# Altium footprint library MainBoard.PcbLib: 34 footprints (part 1 of 3)
Each footprint in its own frame and in the unit in brackets; x right, y up, seen from the top. Pads: shape width x height; smd on the part's side, far side on the other; paste and mask are expansions set on the pad; w line width, h text height; cw(c..) or ccw(c..) is an arc to the next point about the centre after c.
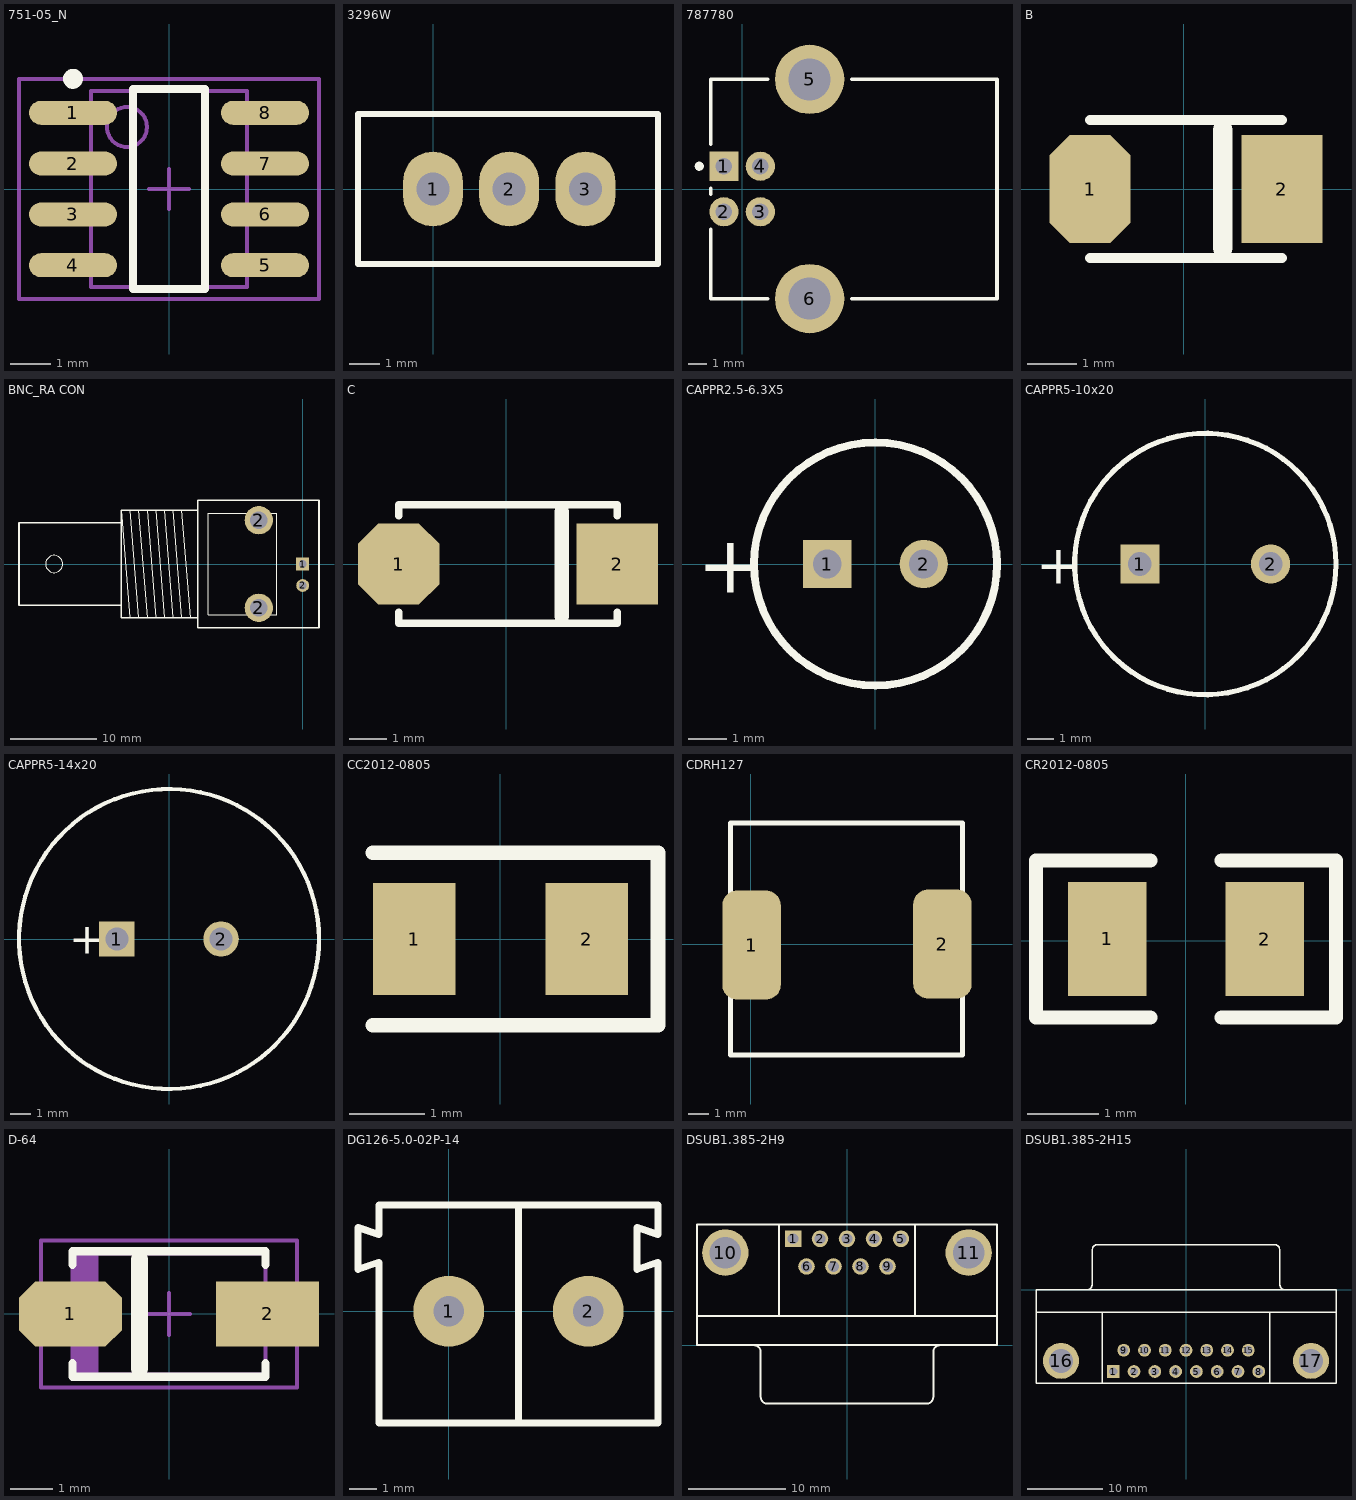
[diagram p0: the footprints below, top view; thin cyan lines are the x and y axes]

## 751-05_N [mm]
pads (8):
  oval 2.2x0.6 smd: 1(-2.4,1.905) 2(-2.4,0.635) 3(-2.4,-0.635) 4(-2.4,-1.905) 5(2.4,-1.905) 6(2.4,-0.635) 7(2.4,0.635) 8(2.4,1.905)
Top Overlay:
  circle w0.25: c-2.4,2.755 r0.125
  lines w0.2: -0.9,-2.5 -0.9,2.5 0.9,2.5 0.9,-2.5 -0.9,-2.5
Mechanical 13:
  circle w0.1: c-1.05,1.55 r0.5
  lines w0.1: -1.95,-2.45 -1.95,2.45 1.95,2.45 1.95,-2.45 -1.95,-2.45
Mechanical 15:
  lines w0.1: -0.5,0 0.5,0 ; 0,-0.5 0,0.5 ; -3.75,-2.75 -3.75,2.75 3.75,2.75 3.75,-2.75 -3.75,-2.75
3D body: height 1.75, standoff 0, extent -1.95,-2.45 1.95,2.45

## 3296W [mm]
pads (3):
  oval 2x2.5 hole 1.1: 1(0,0) 2(2.54,0) 3(5.08,0)
Top Overlay:
  lines w0.2: -2.5,-2.5 7.5,-2.5 7.5,2.5 -2.5,2.5 -2.5,-2.5

## 787780 [mm]
pads (6):
  rect 1.6x1.6 hole 0.9: 1(-1,1.25)
  round 1.6 hole 0.9: 2(-1,-1.25) 3(1,-1.25) 4(1,1.25)
  round 3.8 hole 2.3: 5(3.71,6.02) 6(3.71,-6.02)
Top Overlay:
  circle w0.25: c-2.35,1.25 r0.125
  lines w0.2: -1.72,-2.21 -1.72,-6.02 1.41,-6.02 ; -1.72,-0.29 -1.72,0.05 ; -1.72,2.45 -1.72,6.02 1.41,6.02 ; 6.01,-6.02 13.99,-6.02 13.99,6.02 6.01,6.02

## B [mm]
pads (2):
  oct 1.65x2.2 smd: 1(-1.9,0)
  rect 1.65x2.2 smd: 2(2,0)
Top Overlay:
  lines w0.2: -1.9,-1.4 2,-1.4 ; -1.9,1.4 2,1.4 ; 0.8,-1.4 0.9,-1.4
  lines w0.4: 0.8,-1.2 0.8,1.2

## BNC_RA CON [mm]
pads (4):
  rect 1.5x1.5 hole 0.9: 1(0,0)
  round 3.3 hole 2: 2(-5.1,-5.1) 2(-5.1,5.1)
  round 1.5 hole 0.9: 2(0,-2.5)
Top Overlay:
  circle w0.025: c-28.9,0 r1
  lines w0.025: -20.1,-6.25 -21.1,6.25 ; -20.1,6.25 -19.1,-6.25 ; -19.1,6.25 -18.1,-6.25 ; -18.1,6.25 -17.1,-6.25 ; -17.1,6.25 -16.1,-6.25 ; -16.1,6.25 -15.1,-6.25 ; -15.1,6.25 -14.1,-6.25 ; -14.1,6.25 -13.1,-6.25 ; -21.1,-4.8 -33,-4.8 -33,4.8 -21.1,4.8 ; -21.1,-4.8 -21.1,4.8 ; -21.1,-4.8 -21.1,-6.25 -12.2,-6.25 ; -21.1,4.8 -21.1,6.25 ; -21.1,6.25 -12.2,6.25 ; -12.2,-6.25 -12.2,6.25 ; -12.2,-6.25 -12.2,-7.4 1.9,-7.4 1.9,7.4 -12.2,7.4 -12.2,6.25 ; -11,-5.9 -3,-5.9 -3,5.9 -11,5.9 -11,-5.9
  lines w0.2: -21.1,-4.8 -21.1,4.8 ; -21.1,-4.8 -33,-4.8 -33,4.8 -21.1,4.8 ; -21.1,-4.8 -21.1,-6.25 -12.2,-6.25 ; -21.1,4.8 -21.1,6.25 -12.2,6.25 ; -12.2,-6.25 -12.2,6.25 ; -12.2,-6.25 -12.2,-7.4 1.9,-7.4 1.9,7.4 -12.2,7.4 -12.2,6.25

## C [mm]
pads (2):
  oct 2.2x2.2 smd: 1(-2.9,0)
  rect 2.2x2.2 smd: 2(3,0)
Top Overlay:
  lines w0.2: -2.9,-1.3 -2.9,-1.6 3,-1.6 3,-1.3 ; -2.9,1.3 -2.9,1.6 3,1.6 3,1.3
  lines w0.4: 1.5,-1.4 1.5,1.4

## CAPPR2.5-6.3X5 [mm]
pads (2):
  rect 1.25x1.25 hole 0.75: 1(-1.25,0)
  round 1.25 hole 0.75: 2(1.25,0)
Top Overlay:
  circle w0.2: c0,0 r3.15
  text "+" at -4.625,-0.75 h1.5

## CAPPR5-10x20 [mm]
pads (2):
  rect 1.5x1.5 hole 0.9: 1(-2.5,0)
  round 1.5 hole 0.9: 2(2.5,0)
Top Overlay:
  circle w0.2: c0,0 r5
  text "+" at -6.475,-0.75 h1.5

## CAPPR5-14x20 [mm]
pads (2):
  rect 1.7x1.7 hole 1.1: 1(-2.5,0)
  round 1.7 hole 1.1: 2(2.5,0)
Top Overlay:
  circle w0.2: c0,0 r7.2
  text "+" at -4.8,-0.7 h1.5

## CC2012-0805 [mm]
pads (2):
  rect 1.1x1.5 smd: 1(-1.15,0) 2(1.15,0)
Top Overlay:
  lines w0.2: -1.7,-1.15 2.1,-1.15 2.1,1.15 -1.7,1.15

## CDRH127 [mm]
pads (2):
  rrect50% 2.9x5.4 smd: 1(0.05,-0.05) 2(9.5,0)
Top Overlay:
  lines w0.254: -1,-5.5 -1,6 10.5,6 10.5,-5.5 -1,-5.5

## CR2012-0805 [mm]
pads (2):
  rect 1.1x1.6 smd: 1(-1.1,0.025) 2(1.1,0.025)
Top Overlay:
  lines w0.2: -0.5,-1.075 -2.1,-1.075 -2.1,1.125 -0.5,1.125 ; 0.5,-1.075 2.1,-1.075 2.1,1.125 0.5,1.125

## D-64 [mm]
pads (2):
  oct 2.45x1.55 smd: 1(-2.35,0)
  rect 2.45x1.55 smd: 2(2.35,0)
Top Overlay:
  lines w0.2: -2.3,-1.175 -2.3,-1.5 2.3,-1.5 2.3,-1.175 ; -2.3,1.175 -2.3,1.5 2.3,1.5 2.3,1.175
  lines w0.4: -0.7,-1.3 -0.7,1.3
Mechanical 13:
  rectangle: -2.3,-1.45 -1.681,1.45
  lines w0.1: -2.3,-1.45 2.3,-1.45 2.3,1.45 -2.3,1.45 -2.3,-1.45
Mechanical 15:
  lines w0.1: -0.5,0 0.5,0 ; 0,-0.5 0,0.5 ; -3.05,-1.75 3.05,-1.75 3.05,1.75 -3.05,1.75 -3.05,-1.75
3D body: height 2.44, standoff 0, extent -2.3,-1.45 2.3,1.45

## DG126-5.0-02P-14 [mm]
pads (2):
  round 2.54 hole 1.1: 1(0,0) 2(5,0)
Top Overlay:
  lines w0.254: 2.5,-4 2.5,3.8 ; -3.25,1.5 -3.25,3 -2.5,2.75 -2.5,3.8 7.5,3.8 7.5,2.75 6.75,3 6.75,1.5 7.5,1.75 7.5,-4 -2.5,-4 -2.5,1.75 -3.25,1.5

## DSUB1.385-2H9 [mm]
pads (11):
  rect 1.7x1.7 hole 1.1: 1(-5.54,10.92)
  round 1.7 hole 1.1: 2(-2.77,10.92) 3(0,10.92) 4(2.77,10.92) 5(5.54,10.92) 6(-4.155,8.08) 7(-1.385,8.08) 8(1.385,8.08) 9(4.155,8.08)
  round 4.76 hole 3.26: 10(-12.495,9.5) 11(12.495,9.5)
Top Overlay:
  lines w0.2: -15.4,3 15.4,3 ; -9.56,-0.005 cw(c-9.56,-0.7) -8.865,-0.7 -8.865,-5.3 ; -8.86,-5.305 ccw(c-8.165,-5.305) -8.165,-6 8.165,-6 ccw(c8.165,-5.305) 8.86,-5.305 ; -7,3 -7,12.4 ; 7,3 7,12.4 ; 8.865,-5.3 8.865,-0.7 cw(c9.56,-0.7) 9.56,-0.005 ; -15.4,0 15.4,0 15.4,12.4 -15.4,12.4 -15.4,0
Bottom Overlay:
  text "6" at -5.5,7.5 h1.5
  text "9" at 6.5,7.5 h1.5
  text "5" at 8.5,10.25 h1.5
  text "1" at -7.5,10.25 h1.5

## DSUB1.385-2H15 [mm]
pads (17):
  rect 1.7x1.7 hole 1.1: 1(-9.695,-10.92)
  round 1.7 hole 1.1: 2(-6.925,-10.92) 3(-4.155,-10.92) 4(-1.385,-10.92) 5(1.385,-10.92) 6(4.155,-10.92) 7(6.925,-10.92) 8(9.695,-10.92) 9(-8.31,-8.08) 10(-5.54,-8.08) 11(-2.77,-8.08) 12(0,-8.08) 13(2.77,-8.08) 14(5.54,-8.08) 15(8.31,-8.08)
  round 4.8 hole 3.18: 16(-16.66,-9.5) 17(16.66,-9.5)
Top Overlay:
  lines w0.2: -20,-3 20,-3 ; -13.195,0.005 ccw(c-13.195,0.7) -12.5,0.7 -12.5,5.3 ; -12.495,5.305 cw(c-11.8,5.305) -11.8,6 11.8,6 cw(c11.8,5.305) 12.495,5.305 ; -11.14,-12.5 -11.14,-3 ; 11.14,-12.5 11.14,-3 ; 12.5,5.3 12.5,0.7 ccw(c13.195,0.7) 13.195,0.005 ; -20,-12.5 -20,0 20,0 20,-12.5 -20,-12.5
Bottom Overlay:
  text "1" at -12,-10.25 h1.5
  text "8" at 11.5,-10.25 h1.5
  text "9" at -10.75,-7.5 h1.5
  text "15" at 9.75,-7.5 h1.5